# Altium footprint library MH2X10_2mm_BORDE.PcbLib: 1 footprints
Each footprint in its own frame and in the unit in brackets; x right, y up, seen from the top. Pads: shape width x height; smd on the part's side, far side on the other; paste and mask are expansions set on the pad; w line width, h text height; cw(c..) or ccw(c..) is an arc to the next point about the centre after c.
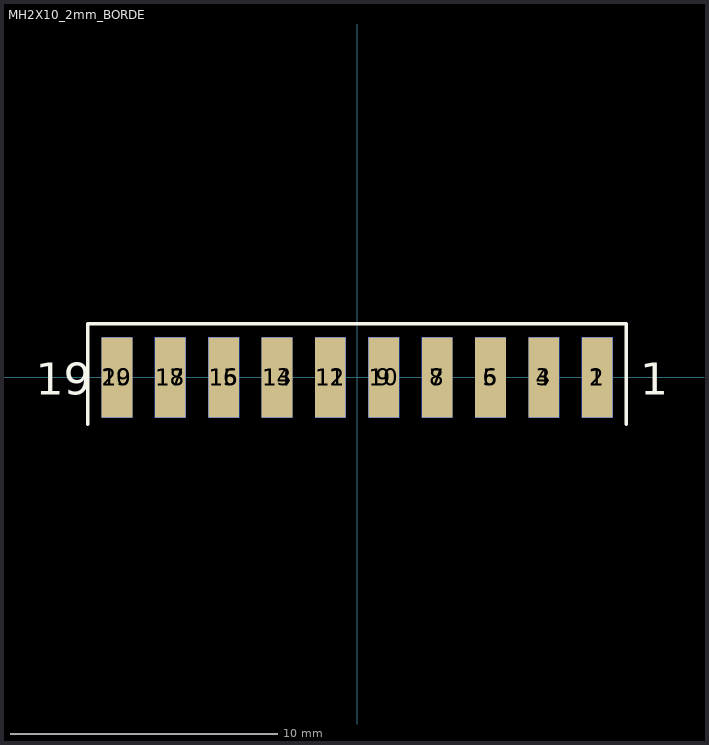
[diagram p0: the footprint, top view; thin cyan lines are the x and y axes]

## MH2X10_2mm_BORDE [mm]
pads (20):
  rect 1.15x3 smd: 1(9,0) 3(7,0) 5(5,0) 7(3,0) 9(1,0) 11(-1,0) 13(-3,0) 15(-5,0) 17(-7,0) 19(-9,0)
  rect 1.15x3 smd far side: 2(9,0) 4(7,0) 6(5,0) 8(3,0) 10(1,0) 12(-1,0) 14(-3,0) 16(-5,0) 18(-7,0) 20(-9,0)
Top Overlay:
  lines w0.127: -10.091,-1.753 -10.091,2.014 10.091,2.014 10.091,-1.753
  text "1" at 10.609,-0.644 h1.2
  text "19" at -12.04,-0.644 h1.2
Bottom Overlay:
  lines w0.127: -10.091,-1.753 -10.091,2.014 10.091,2.014 10.091,-1.753
  text "20" at -10.414,-0.644 h1.2
  text "2" at 11.269,-0.644 h1.2
3D body: height 1.5, standoff -2.5, extent -9.95,-7.338 9.95,0.762